# Altium footprint library 3-641208-3.PcbLib: 1 footprints
Each footprint in its own frame and in the unit in brackets; x right, y up, seen from the top. Pads: shape width x height; smd on the part's side, far side on the other; paste and mask are expansions set on the pad; w line width, h text height; cw(c..) or ccw(c..) is an arc to the next point about the centre after c.
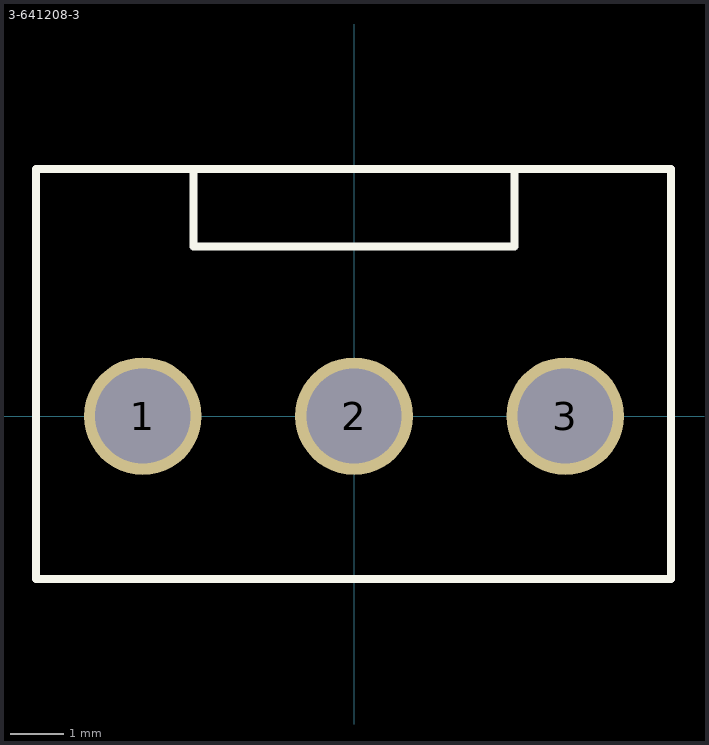
[diagram p0: the footprint, top view; thin cyan lines are the x and y axes]

## 3-641208-3 [mm]
pads (3):
  round 2.2 / inner round 1.524 / far side round 2.2 hole 1.78 mask+0: 1(-3.95,0) 2(0,0) 3(3.95,0)
Top Overlay:
  lines w0.15: -3,4.6 -3,3.175 3,3.175 3,4.6 ; -5.95,-3.05 -5.95,4.625 5.925,4.625 5.925,-3.05 -5.95,-3.05 ; -5.95,-3.05 -5.95,-3.05
Mechanical 13:
  lines w0.1: -5.95,-3.05 5.95,-3.05 5.95,4.625 -5.95,4.625 -5.95,-3.05
3D body "3-641208-3.stp": height 13.35, standoff -3.16, extent -5.944,-3.035 5.944,4.585